# EAGLE library part DRV8814 (library ASL)
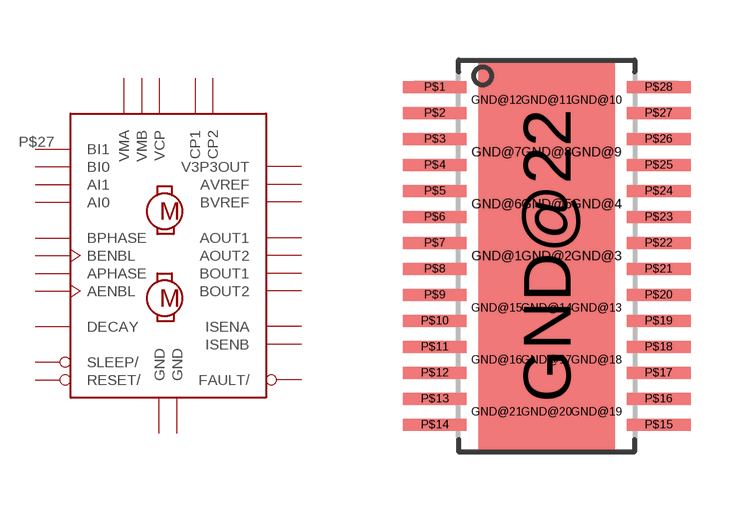
[diagram p26: symbol with the pads of HHTSOP28_PWP; footprint HHTSOP28_PWP]

Designator prefix -

## DRV8814_PWP  [HHTSOP28_PWP]
GND@1  GND  pwr
GND@2  GND  pwr
GND@3  GND  pwr
GND@4  GND  pwr
GND@5  GND  pwr
GND@6  GND  pwr
GND@7  GND  pwr
GND@8  GND  pwr
GND@9  GND  pwr
GND@10  GND  pwr
GND@11  GND  pwr
GND@12  GND  pwr
GND@13  GND  pwr
GND@14  GND  pwr
GND@15  GND  pwr
GND@16  GND  pwr
GND@17  GND  pwr
GND@18  GND  pwr
GND@19  GND  pwr
GND@20  GND  pwr
GND@21  GND  pwr
GND@22  GND  pwr
P$1  CP1
P$2  CP2
P$3  VCP
P$4  VMA  pwr
P$5  AOUT1  out
P$6  ISENA  out
P$7  AOUT2  out
P$8  BOUT2  out
P$9  ISENB  out
P$10  BOUT1  out
P$11  VMB  pwr
P$12  AVREF  in
P$13  BVREF  in
P$14  GND  pwr
P$15  V3P3OUT  out
P$16  RESET/  in
P$17  SLEEP/  in
P$18  FAULT/  in
P$19  DECAY  in
P$20  APHASE  in
P$21  AENBL  in
P$22  BENBL  in
P$23  BPHASE  in
P$24  AI0  in
P$25  AI1  in
P$26  BI0  in
P$27  BI1  in
P$28  GND  pwr

## Footprint HHTSOP28_PWP (pad centres in mm)
HHSOP with 28pin powerpad
drill 0.406: GND@1 -1.249,0; GND@2 0,0; GND@3 1.249,0; GND@4 1.249,1.3; GND@5 0,1.3; GND@6 -1.249,1.3; GND@7 -1.249,2.6; GND@8 0,2.6; GND@9 1.249,2.6; GND@10 1.249,3.9; GND@11 0,3.9; GND@12 -1.249,3.9; GND@13 1.249,-1.3; GND@14 0,-1.3; GND@15 -1.249,-1.3; GND@16 -1.249,-2.6; GND@17 0,-2.6; GND@18 1.249,-2.6; GND@19 1.249,-3.9; GND@20 0,-3.9; GND@21 -1.249,-3.9
smd 3.4 x 9.7: GND@22 0,0
smd 1.6 x 0.3: P$1 -2.8,4.225; P$2 -2.8,3.575; P$3 -2.8,2.925; P$4 -2.8,2.275; P$5 -2.8,1.625; P$6 -2.8,0.975; P$7 -2.8,0.325; P$8 -2.8,-0.325; P$9 -2.8,-0.975; P$10 -2.8,-1.625; P$11 -2.8,-2.275; P$12 -2.8,-2.925; P$13 -2.8,-3.575; P$14 -2.8,-4.225; P$15 2.8,-4.225; P$16 2.8,-3.575; P$17 2.8,-2.925; P$18 2.8,-2.275; P$19 2.8,-1.625; P$20 2.8,-0.975; P$21 2.8,-0.325; P$22 2.8,0.325; P$23 2.8,0.975; P$24 2.8,1.625; P$25 2.8,2.275; P$26 2.8,2.925; P$27 2.8,3.575; P$28 2.8,4.225